# Altium footprint library Cliff Electronic Components Footprints.PcbLib: 6 footprints
Each footprint in its own frame and in the unit in brackets; x right, y up, seen from the top. Pads: shape width x height; smd on the part's side, far side on the other; paste and mask are expansions set on the pad; w line width, h text height; cw(c..) or ccw(c..) is an arc to the next point about the centre after c.
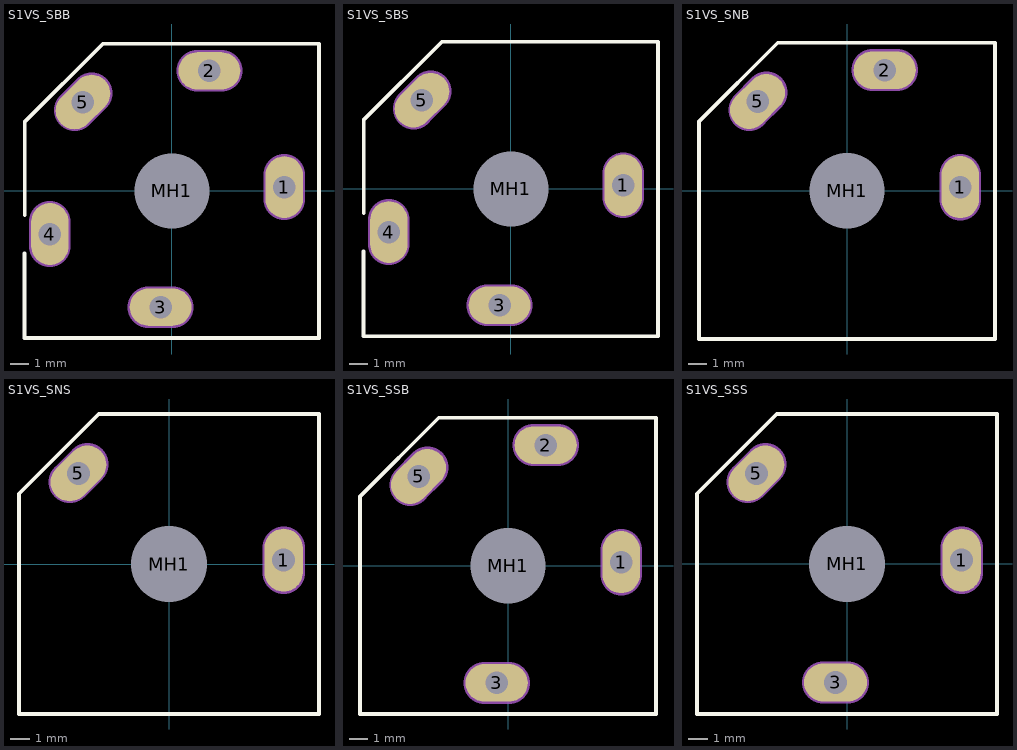
[diagram p0: the footprints below, top view; thin cyan lines are the x and y axes]

## S1VS_SBB [mm] "Connector; Jack Socket, 1/4\" [6.5mm], Thru-Hole, 5 Position, Vertical, Body 15.7 x 15.7 x 31 mm (WxTxH)"
height 31.1
pads (6):
  oval 2x3.3 hole 1.2: 1(6,0.2) 4(-6.5,-2.3)
  oval 3.3x2 hole 1.2: 2(2,6.4) 3(-0.6,-6.2)
  oval 2x3.3 hole 1.2 rot 135: 5(-4.738,4.738)
  round 3.7 hole 4 unplated: MH1(0,0)
Top Overlay:
  lines w0.2: -7.85,-3.32 -7.85,-7.85 7.85,-7.85 7.85,7.85 -3.675,7.85 -7.85,3.675 -7.85,-1.28
Mechanical 1:
  lines w1.2: -6.5,-2.95 -6.5,-1.65 ; -5.185,4.295 -4.266,5.214 ; -1.25,-6.2 0.05,-6.2 ; 1.35,6.4 2.65,6.4 ; 6,-0.45 6,0.85
  text "Mech 2 - Clearance, move to internal plane if present" at -7.9,8.16 h0.3
  text "Mech 1 - Slot cut-out" at -7.9,8.66 h0.3
  text "Assign keep-out area to slot" at -7.9,10.16 h0.3
  text "Slot 1.2x2.5mm, PTH" at -7.9,9.16 h0.3
  text "Alert PCB fab to slot details" at -7.9,9.66 h0.3
Mechanical 2:
  lines w2.216: -6.5,-2.95 -6.5,-1.65 ; -5.185,4.295 -4.266,5.214 ; -1.25,-6.2 0.05,-6.2 ; 1.35,6.4 2.65,6.4 ; 6,-0.45 6,0.85

## S1VS_SBS [mm] "Connector; Jack Socket, 1/4\" [6.5mm], Thru-Hole, 4 Position, Vertical, Body 15.7 x 15.7 x 31 mm (WxTxH)"
height 31.1
pads (5):
  oval 2x3.3 hole 1.2: 1(6,0.2) 4(-6.5,-2.3)
  oval 3.3x2 hole 1.2: 3(-0.6,-6.2)
  oval 2x3.3 hole 1.2 rot 135: 5(-4.738,4.738)
  round 3.7 hole 4 unplated: MH1(0,0)
Top Overlay:
  lines w0.2: -7.85,-3.32 -7.85,-7.85 7.85,-7.85 7.85,7.85 -3.675,7.85 -7.85,3.675 -7.85,-1.28
Mechanical 1:
  lines w1.2: -6.5,-2.95 -6.5,-1.65 ; -5.185,4.295 -4.266,5.214 ; -1.25,-6.2 0.05,-6.2 ; 6,-0.45 6,0.85
  text "Alert PCB fab to slot details" at -7.9,9.66 h0.3
  text "Slot 1.2x2.5mm, PTH" at -7.9,9.16 h0.3
  text "Assign keep-out area to slot" at -7.9,10.16 h0.3
  text "Mech 1 - Slot cut-out" at -7.9,8.66 h0.3
  text "Mech 2 - Clearance, move to internal plane if present" at -7.9,8.16 h0.3
Mechanical 2:
  lines w2.216: -6.5,-2.95 -6.5,-1.65 ; -5.185,4.295 -4.266,5.214 ; -1.25,-6.2 0.05,-6.2 ; 6,-0.45 6,0.85

## S1VS_SNB [mm] "Connector; Jack Socket, 1/4\" [6.5mm], Thru-Hole, 3 Position, Vertical, Body 15.7 x 15.7 x 31 mm (WxTxH)"
height 31.1
pads (4):
  oval 2x3.3 hole 1.2: 1(6,0.2)
  oval 3.3x2 hole 1.2: 2(2,6.4)
  oval 2x3.3 hole 1.2 rot 135: 5(-4.738,4.738)
  round 3.7 hole 4 unplated: MH1(0,0)
Top Overlay:
  lines w0.2: -7.85,-7.85 7.85,-7.85 7.85,7.85 -3.675,7.85 -7.85,3.675 -7.85,-7.85
Mechanical 1:
  lines w1.2: -5.185,4.295 -4.266,5.214 ; 1.35,6.4 2.65,6.4 ; 6,-0.45 6,0.85
  text "Mech 2 - Clearance, move to internal plane if present" at -7.9,8.16 h0.3
  text "Mech 1 - Slot cut-out" at -7.9,8.66 h0.3
  text "Assign keep-out area to slot" at -7.9,10.16 h0.3
  text "Slot 1.2x2.5mm, PTH" at -7.9,9.16 h0.3
  text "Alert PCB fab to slot details" at -7.9,9.66 h0.3
Mechanical 2:
  lines w2.216: -5.185,4.295 -4.266,5.214 ; 1.35,6.4 2.65,6.4 ; 6,-0.45 6,0.85

## S1VS_SNS [mm] "Connector; Jack Socket, 1/4\" [6.5mm], Thru-Hole, 2 Position, Vertical, Body 15.7 x 15.7 x 31 mm (WxTxH)"
height 31.1
pads (3):
  oval 2x3.3 hole 1.2: 1(6,0.2)
  oval 2x3.3 hole 1.2 rot 135: 5(-4.738,4.738)
  round 3.7 hole 4 unplated: MH1(0,0)
Top Overlay:
  lines w0.2: -7.85,-7.85 -7.85,3.675 -3.675,7.85 7.85,7.85 7.85,-7.85 -7.85,-7.85
Mechanical 1:
  lines w1.2: -5.185,4.295 -4.266,5.214 ; 6,-0.45 6,0.85
  text "Mech 2 - Clearance, move to internal plane if present" at -7.9,8.16 h0.3
  text "Mech 1 - Slot cut-out" at -7.9,8.66 h0.3
  text "Assign keep-out area to slot" at -7.9,10.16 h0.3
  text "Slot 1.2x2.5mm, PTH" at -7.9,9.16 h0.3
  text "Alert PCB fab to slot details" at -7.9,9.66 h0.3
Mechanical 2:
  lines w2.216: -5.185,4.295 -4.266,5.214 ; 6,-0.45 6,0.85

## S1VS_SSB [mm] "Connector; Jack Socket, 1/4\" [6.5mm], Thru-Hole, 4 Position, Vertical, Body 15.7 x 15.7 x 31 mm (WxTxH)"
height 31.1
pads (5):
  oval 2x3.3 hole 1.2: 1(6,0.2)
  oval 3.3x2 hole 1.2: 2(2,6.4) 3(-0.6,-6.2)
  oval 2x3.3 hole 1.2 rot 135: 5(-4.738,4.738)
  round 3.7 hole 4 unplated: MH1(0,0)
Top Overlay:
  lines w0.2: -7.85,-7.85 7.85,-7.85 7.85,7.85 -3.675,7.85 -7.85,3.675 -7.85,-7.85
Mechanical 1:
  lines w1.2: -5.185,4.295 -4.266,5.214 ; -1.25,-6.2 0.05,-6.2 ; 1.35,6.4 2.65,6.4 ; 6,-0.45 6,0.85
  text "Mech 2 - Clearance, move to internal plane if present" at -7.9,8.16 h0.3
  text "Mech 1 - Slot cut-out" at -7.9,8.66 h0.3
  text "Assign keep-out area to slot" at -7.9,10.16 h0.3
  text "Slot 1.2x2.5mm, PTH" at -7.9,9.16 h0.3
  text "Alert PCB fab to slot details" at -7.9,9.66 h0.3
Mechanical 2:
  lines w2.216: -5.185,4.295 -4.266,5.214 ; -1.25,-6.2 0.05,-6.2 ; 1.35,6.4 2.65,6.4 ; 6,-0.45 6,0.85

## S1VS_SSS [mm] "Connector; Jack Socket, 1/4\" [6.5mm], Thru-Hole, 3 Position, Vertical, Body 15.7 x 15.7 x 31 mm (WxTxH)"
height 31.1
pads (4):
  oval 2x3.3 hole 1.2: 1(6,0.2)
  oval 3.3x2 hole 1.2: 3(-0.6,-6.2)
  oval 2x3.3 hole 1.2 rot 135: 5(-4.738,4.738)
  round 3.7 hole 4 unplated: MH1(0,0)
Top Overlay:
  lines w0.2: -7.85,-7.85 -7.85,3.675 -3.675,7.85 7.85,7.85 7.85,-7.85 -7.85,-7.85
Mechanical 1:
  lines w1.2: -5.185,4.295 -4.266,5.214 ; -1.25,-6.2 0.05,-6.2 ; 6,-0.45 6,0.85
  text "Mech 2 - Clearance, move to internal plane if present" at -7.9,8.16 h0.3
  text "Mech 1 - Slot cut-out" at -7.9,8.66 h0.3
  text "Assign keep-out area to slot" at -7.9,10.16 h0.3
  text "Slot 1.2x2.5mm, PTH" at -7.9,9.16 h0.3
  text "Alert PCB fab to slot details" at -7.9,9.66 h0.3
Mechanical 2:
  lines w2.216: -5.185,4.295 -4.266,5.214 ; -1.25,-6.2 0.05,-6.2 ; 6,-0.45 6,0.85